# EAGLE library part ATWINC1510-MR210PB1952-ND (library thermo)
The ATWINC15x0-MR210xB is a low-power consumption 802.11 b/g/n IoT (Internet of Things) module, which is specifically optimized for low-power IoT applications. The module integrates Power Amplifier, LNA, Switch, Power Management, and a choice of printed antenna or a micro co-ax (u.FL) connector for an external antenna resulting in a small form factor (21.7x14.7x2.1mm) design. With seamless roaming capabilities and advanced security, it could be interoperable with various vendors’ 802.11 b/g/n access points in wireless LAN. The module provides SPI ports to interface with a host controller.
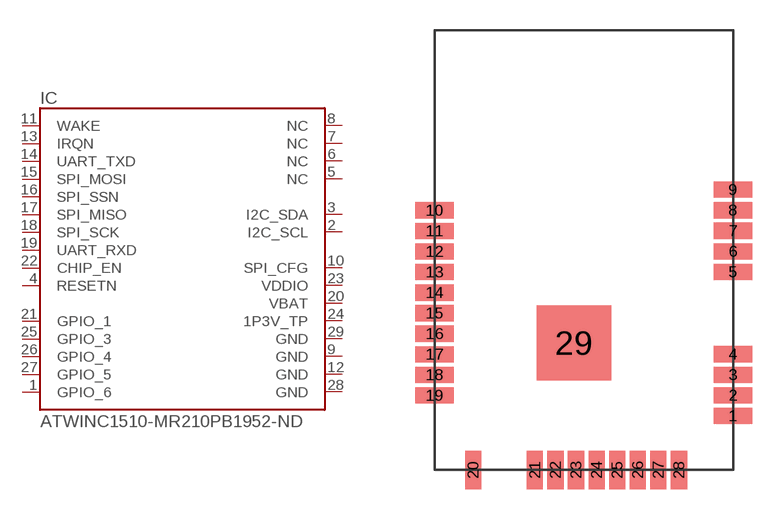
[diagram p1: symbol with the pads of ATWINC15X0-MODULE; footprint ATWINC15X0-MODULE]

Designator prefix IC

## ATWINC1510-MR210PB1952-ND  [ATWINC15X0-MODULE]
1  GPIO_6
2  I2C_SCL
3  I2C_SDA
4  RESETN
5  NC  nc
6  NC  nc
7  NC  nc
8  NC  nc
9  GND  pwr
10  SPI_CFG
11  WAKE
12  GND  pwr
13  IRQN
14  UART_TXD
15  SPI_MOSI
16  SPI_SSN
17  SPI_MISO
18  SPI_SCK
19  UART_RXD
20  VBAT
21  GPIO_1
22  CHIP_EN
23  VDDIO
24  1P3V_TP
25  GPIO_3
26  GPIO_4
27  GPIO_5
28  GND  pwr
29  GND  pwr

## Footprint ATWINC15X0-MODULE (pad centres in mm)
smd 1.9 x 0.8: 1 7.11,-7.49; 2 7.11,-6.474; 3 7.11,-5.458; 4 7.11,-4.442; 5 7.11,-0.378; 6 7.11,0.638; 7 7.11,1.654; 8 7.11,2.67; 9 7.11,3.686; 10 -7.62,2.664; 11 -7.62,1.648; 12 -7.62,0.632; 13 -7.62,-0.384; 14 -7.62,-1.4; 15 -7.62,-2.416; 16 -7.62,-3.432; 17 -7.62,-4.448; 18 -7.62,-5.464; 19 -7.62,-6.48
smd 0.8 x 1.9: 20 -5.72,-10.16; 21 -2.672,-10.16; 22 -1.656,-10.16; 23 -0.64,-10.16; 24 0.376,-10.16; 25 1.392,-10.16; 26 2.408,-10.16; 27 3.424,-10.16; 28 4.44,-10.16
smd 3.7 x 3.7: 29 -0.74,-3.89